# EAGLE library part AD7960BCPZ-RL7 (library open_covg)
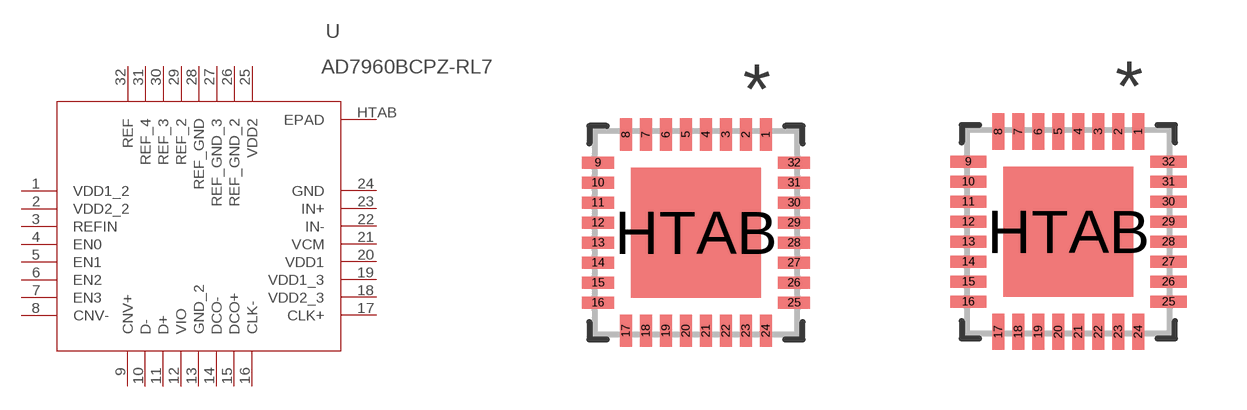
[diagram p0: symbol with the pads of CP_32_7; footprints CP_32_7, CP_32_7-M]

Designator prefix U

## AD7960BCPZ-RL7 (MANUFACTURER_PART_NUMBER: AD7960BCPZRL7; VENDOR: Analog Devices Inc)  [CP_32_7]
1  VDD1_2  pwr
2  VDD2_2  pwr
3  REFIN  in
4  EN0  in
5  EN1  in
6  EN2  in
7  EN3  in
8  CNV-  in
9  CNV+  in
10  D-  out
11  D+  out
12  VIO  pwr
13  GND_2  pwr
14  DCO-  out
15  DCO+  out
16  CLK-  in
17  CLK+  in
18  VDD2_3  pwr
19  VDD1_3  pwr
20  VDD1  pwr
21  VCM  out
22  IN-  in
23  IN+  in
24  GND  pwr
25  VDD2  pwr
26  REF_GND_2  pwr
27  REF_GND_3  pwr
28  REF_GND  pwr
29  REF_2
30  REF_3
31  REF_4
32  REF
HTAB  EPAD  pas

## AD7960BCPZ-RL7CP_32_7-M (MANUFACTURER_PART_NUMBER: AD7960BCPZRL7; VENDOR: Analog Devices Inc)  [CP_32_7-M]
Pads as for CP_32_7

## AD7960BCPZ-RL7CP_32_7-L (MANUFACTURER_PART_NUMBER: AD7960BCPZRL7; VENDOR: Analog Devices Inc)  [CP_32_7-L]
Pads as for CP_32_7

## Footprint CP_32_7 (pad centres in mm)
smd 0.3 x 0.805: 1 1.75,2.452; 2 1.25,2.452; 3 0.75,2.452; 4 0.25,2.452; 5 -0.25,2.452; 6 -0.75,2.452; 7 -1.25,2.452; 8 -1.75,2.452; 17 -1.75,-2.452; 18 -1.25,-2.452; 19 -0.75,-2.452; 20 -0.25,-2.452; 21 0.25,-2.452; 22 0.75,-2.452; 23 1.25,-2.452; 24 1.75,-2.452
smd 0.805 x 0.3: 9 -2.452,1.75; 10 -2.452,1.25; 11 -2.452,0.75; 12 -2.452,0.25; 13 -2.452,-0.25; 14 -2.452,-0.75; 15 -2.452,-1.25; 16 -2.452,-1.75; 25 2.452,-1.75; 26 2.452,-1.25; 27 2.452,-0.75; 28 2.452,-0.25; 29 2.452,0.25; 30 2.452,0.75; 31 2.452,1.25; 32 2.452,1.75
smd 3.25 x 3.25: HTAB 0,0

## Footprint CP_32_7-M (pad centres in mm)
smd 0.3 x 0.906: 1 1.75,2.503; 2 1.25,2.503; 3 0.75,2.503; 4 0.25,2.503; 5 -0.25,2.503; 6 -0.75,2.503; 7 -1.25,2.503; 8 -1.75,2.503; 17 -1.75,-2.503; 18 -1.25,-2.503; 19 -0.75,-2.503; 20 -0.25,-2.503; 21 0.25,-2.503; 22 0.75,-2.503; 23 1.25,-2.503; 24 1.75,-2.503
smd 0.906 x 0.3: 9 -2.503,1.75; 10 -2.503,1.25; 11 -2.503,0.75; 12 -2.503,0.25; 13 -2.503,-0.25; 14 -2.503,-0.75; 15 -2.503,-1.25; 16 -2.503,-1.75; 25 2.503,-1.75; 26 2.503,-1.25; 27 2.503,-0.75; 28 2.503,-0.25; 29 2.503,0.25; 30 2.503,0.75; 31 2.503,1.25; 32 2.503,1.75
smd 3.25 x 3.25: HTAB 0,0

## Footprint CP_32_7-L (pad centres in mm)
smd 0.3 x 0.703: 1 1.75,2.402; 2 1.25,2.402; 3 0.75,2.402; 4 0.25,2.402; 5 -0.25,2.402; 6 -0.75,2.402; 7 -1.25,2.402; 8 -1.75,2.402; 17 -1.75,-2.402; 18 -1.25,-2.402; 19 -0.75,-2.402; 20 -0.25,-2.402; 21 0.25,-2.402; 22 0.75,-2.402; 23 1.25,-2.402; 24 1.75,-2.402
smd 0.703 x 0.3: 9 -2.402,1.75; 10 -2.402,1.25; 11 -2.402,0.75; 12 -2.402,0.25; 13 -2.402,-0.25; 14 -2.402,-0.75; 15 -2.402,-1.25; 16 -2.402,-1.75; 25 2.402,-1.75; 26 2.402,-1.25; 27 2.402,-0.75; 28 2.402,-0.25; 29 2.402,0.25; 30 2.402,0.75; 31 2.402,1.25; 32 2.402,1.75
smd 3.25 x 3.25: HTAB 0,0